# Altium schematic symbol library CAP_01uf.SchLib: 1 symbol
Pins are listed as number, name and electrical type; pins without a type are passive.

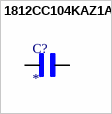
[diagram p0: symbol 1812CC104KAZ1A]

## 1812CC104KAZ1A
designator C?
CAP,CERM,0.10UF,630V,X7R,1812; Dielectric Characteristic:X7R; Capacitance:100nF; Capacitance Tolerance:Â± 10%; Voltage Rating:630V; Temperature Coefficient:Â± 15%; Series:LT; Capacitor Case Style:1812; No. of Pins:2; Mounting Type:SMD; Operating Temperature Range:-55Â°C to +125Â°C; SVHC:No SVHC (18-Jun-2010); MP: 1812CC104KAZ1A; Package: None; Price: None; Value: *; Availability: Unavailable
footprint CAPC4632X221N
pins: 1, 2